# Altium schematic symbol library 2020-10-21_21-18-59.SchLib: 2 symbols
Pins are listed as number, name and electrical type; pins without a type are passive.

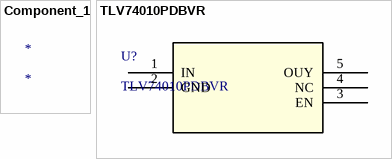
[diagram p0: symbols Component_1 to TLV74010PDBVR]

## Component_1
designator *

## TLV74010PDBVR
designator U?
No Description Available; Built_By: EMA_Matt; Vendor: Texas Instruments; SourceLibrary: TI_2020-07-16; Datasheet: https://www.ti.com/lit/ds/symlink/tlv740p.pdf?ts=1594661190849&ref_url=https%253A%252F%252Fwww.ti.com%252Fstore%252Fti%252Fen%252Fp%252Fproduct%252F%253Fp%253DTLV74010PDBVR; Copyright: Copyright (C) 2018 Accelerated Designs. All rights reserved; Manufacturer_Part_Number: TLV74010PDBVR; RefDes: RefDes; Type: DEV
footprint SOIC_DBVR_TEX
pins: 1 IN, 2 GND, 3 EN, 4 NC, 5 OUY